# Altium schematic symbol library GRM155R70J105KA12D.SchLib: 1 symbol
Pins are listed as number, name and electrical type; pins without a type are passive.

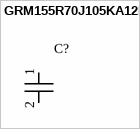
[diagram p0: symbol GRM155R70J105KA12D]

## GRM155R70J105KA12D
designator C?
Manufacturer_Name: Murata; Manufacturer_Part_Number: GRM155R70J105KA12D
pins: 1, 2